# Altium footprint library Memory_reader_PcbLib1.PcbLib: 5 footprints
Each footprint in its own frame and in the unit in brackets; x right, y up, seen from the top. Pads: shape width x height; smd on the part's side, far side on the other; paste and mask are expansions set on the pad; w line width, h text height; cw(c..) or ccw(c..) is an arc to the next point about the centre after c.
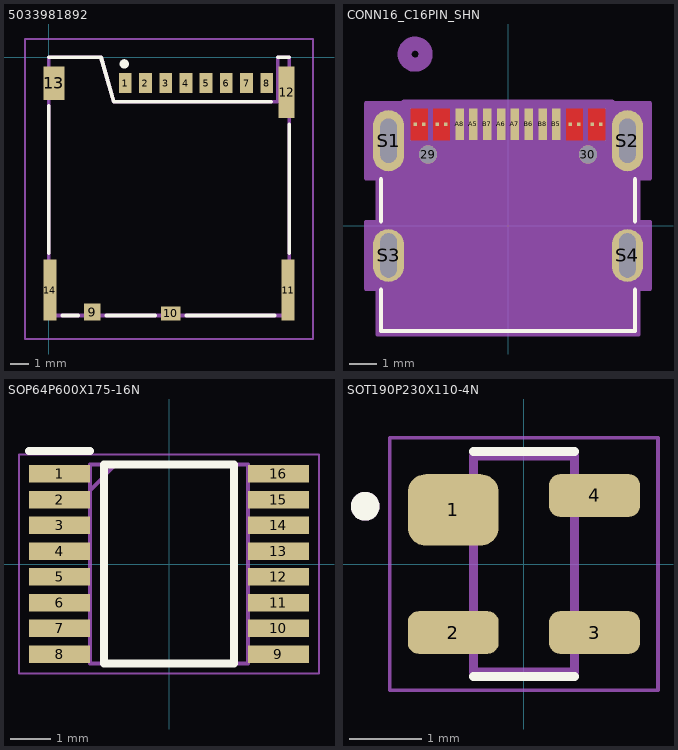
[diagram p0: the footprints below, top view; thin cyan lines are the x and y axes]

## 5033981892 [mm]
pads (14):
  rect 0.7x1.1 smd: 1(4.17,-1.4) 2(5.27,-1.4) 3(6.37,-1.4) 4(7.47,-1.4) 5(8.57,-1.4) 6(9.67,-1.4) 7(10.77,-1.4) 8(11.87,-1.4)
  rect 0.9x0.93 smd: 9(2.38,-13.865)
  rect 1.05x0.78 smd: 10(6.645,-13.94)
  rect 0.7x3.33 smd: 11(13.03,-12.665) 14(0.07,-12.665)
  rect 0.86x2.8 smd: 12(12.95,-1.9)
  rect 1.14x1.83 smd: 13(0.29,-1.415)
Top Overlay:
  circle w0.254: c4.116,-0.356 r0.127
  lines w0.127: 3.989,-0.356 ccw(c4.116,-0.356) 4.243,-0.356 ccw(c4.116,-0.356) 3.989,-0.356
  lines w0.2: 0,-10.648 0,-2.65 ; 0,0 2.849,0 3.554,-2.42 12.109,-2.42 ; 0.74,-14.05 1.6,-14.05 ; 3.15,-14.05 5.8,-14.05 ; 7.5,-14.05 12.3,-14.05 ; 12.474,0 13.1,0 ; 13.1,-10.65 13.1,-3.65
Mechanical 15:
  lines w0.2: 0,-14.05 0,0 2.849,0 3.554,-2.42 12.474,-2.42 12.474,0 13.1,0 13.1,-14.05 0,-14.05
Mechanical 20:
  lines w0.1: -1.28,-15.33 14.38,-15.33 14.38,1 -1.28,1 -1.28,-15.33

## CONN16_C16PIN_SHN [mil]
pads (22):
  round 26 / inner round 60 / far side round 26 hole 26 unplated paste-99999 mask+0: 29(-113.78,101.55) 30(113.78,101.55)
  rect 5x5 smd paste-2.5 mask-2.5: A1(-132.29,144.5) A4(-100.61,144.5) A9(100.61,144.5) A12(132.29,144.5) B1(120.3,144.5) B4(88.61,144.5) B9(-88.61,144.5) B12(-120.3,144.5)
  rect 12x45 smd paste+0 mask+0: A5(-49.23,144.5) A6(-9.85,144.5) A7(9.85,144.5) A8(-68.92,144.5) B5(68.92,144.5) B6(29.54,144.5) B7(-29.54,144.5) B8(49.23,144.5)
  oval 44x87 / inner round 60 / far side oval 44x87 hole 23.62 slot 62.99 at 90 deg paste-99999 mask+0: S1(-170.08,121.23) S2(170.08,121.23)
  oval 44x75 / inner round 60 / far side oval 44x75 hole 23.62 slot 62.99 at 90 deg paste-99999 mask+0: S3(-170.08,-42.15) S4(170.08,-42.15)
Top Layer:
  region: -114.3,122 -138.29,122 -138.29,167 -114.3,167
  region: -106.61,122 -106.61,167 -82.61,167 -82.61,122
  region: 82.61,167 106.61,167 106.61,122 82.61,122
  region: 114.3,167 138.29,167 138.29,122 114.3,122
Top Overlay:
  lines w6: -181,-91.01 -181,-149.5 181,-149.5 181,-91.01 ; -181,6.7 -181,66.37 ; 181,6.7 181,66.37
Top Paste:
  region: -114.3,122 -138.29,122 -138.29,167 -114.3,167
  region: -106.61,122 -106.61,167 -82.61,167 -82.61,122
  region: 82.61,167 106.61,167 106.61,122 82.61,122
  region: 114.3,167 138.29,167 138.29,122 114.3,122
Top Solder:
  region: 114.3,167 138.29,167 138.29,122 114.3,122
  region: -114.3,122 -138.29,122 -138.29,167 -114.3,167
  region: -106.61,122 -106.61,167 -82.61,167 -82.61,122
  region: 82.61,167 106.61,167 106.61,122 82.61,122
Mechanical 13:
  circle w20: c-132.29,244.5 r15
  lines w1: -176,-144.5 176,-144.5 176,144.5 -176,144.5 -176,-144.5
Mechanical 15:
  region: -202.08,-89.65 -186,-89.65 -186,-154.5 186,-154.5 186,-89.65 202.08,-89.65 202.08,5.35 186,5.35 186,67.73 202.08,67.73 202.08,174.73 148.29,174.73 148.29,177 -148.29,177 -148.29,174.73 -202.08,174.73 -202.08,67.73 -186,67.73 -186,5.35 -202.08,5.35
  lines w6: -202.08,-89.65 -186,-89.65 -186,-154.5 186,-154.5 186,-89.65 202.08,-89.65 202.08,5.35 186,5.35 186,67.73 202.08,67.73 202.08,174.73 148.29,174.73 148.29,177 -148.29,177 -148.29,174.73 -202.08,174.73 -202.08,67.73 -186,67.73 -186,5.35 -202.08,5.35 -202.08,-89.65

## PCBComponent_1 [mm]

## SOP64P600X175-16N [mm]
pads (16):
  rect 1.5x0.435 smd: 1(-2.7,2.222) 2(-2.7,1.588) 3(-2.7,0.952) 4(-2.7,0.318) 5(-2.7,-0.318) 6(-2.7,-0.952) 7(-2.7,-1.588) 8(-2.7,-2.222) 9(2.7,-2.222) 10(2.7,-1.588) 11(2.7,-0.952) 12(2.7,-0.318) 13(2.7,0.318) 14(2.7,0.952) 15(2.7,1.588) 16(2.7,2.222)
Top Overlay:
  lines w0.2: -3.45,2.79 -1.95,2.79 ; -1.6,-2.45 -1.6,2.45 1.6,2.45 1.6,-2.45 -1.6,-2.45
Mechanical 15:
  lines w0.1: -1.95,1.815 -1.315,2.45 ; -1.95,-2.45 -1.95,2.45 1.95,2.45 1.95,-2.45 -1.95,-2.45
Mechanical 20:
  lines w0.05: -3.7,-2.7 -3.7,2.7 3.7,2.7 3.7,-2.7 -3.7,-2.7
3D body "GL823K.stp": height 1.75, standoff 0, extent -3,-2.45 3,2.45

## SOT190P230X110-4N [mm]
pads (4):
  rrect50% 1.26x0.99 smd: 1(-0.98,0.75)
  rrect50% 1.26x0.59 smd: 2(-0.98,-0.95) 3(0.98,-0.95) 4(0.98,0.95)
Top Overlay:
  circle w0.2: c-2.2,0.8 r0.1
  lines w0.127: -0.7,-1.559 0.7,-1.559 ; -0.7,1.559 0.7,1.559
Mechanical 13:
  circle w0.2: c-2.2,0.8 r0.1
  lines w0.127: -0.7,-1.5 0.7,-1.5 0.7,1.5 -0.7,1.5 -0.7,-1.5
Mechanical 15:
  lines w0.05: -1.86,-1.75 -1.86,1.75 1.86,1.75 1.86,-1.75 -1.86,-1.75
3D body "step_temp.STEP": height 1.1, standoff 0, extent -1.15,-1.45 1.15,1.45